# Altium schematic symbol library ATC89C52RC.SchLib: 5 symbols
Pins are listed as number, name and electrical type; pins without a type are passive.

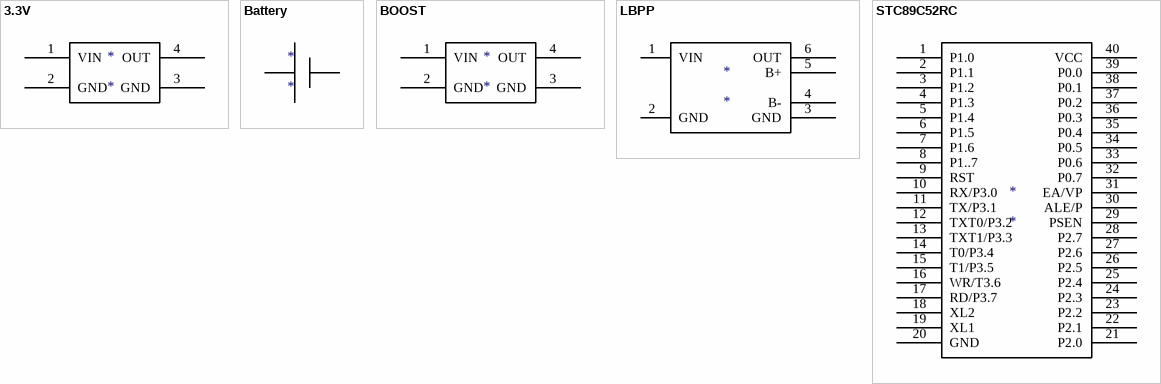
[diagram p0: symbols 3.3V to STC89C52RC]

## 3.3V
designator *
pins: 1 VIN, 2 GND, 3 GND, 4 OUT

## Battery
designator *
pins: 1 V+, 2 GND

## BOOST
designator *
pins: 1 VIN, 2 GND, 3 GND, 4 OUT

## LBPP
designator *
pins: 1 VIN, 2 GND, 3 GND, 4 B-, 5 B+, 6 OUT

## STC89C52RC
designator *
pins: 1 P1.0, 2 P1.1, 3 P1.2, 4 P1.3, 5 P1.4, 6 P1.5, 7 P1.6, 8 P1..7, 9 RST, 10 RX/P3.0, 11 TX/P3.1, 12 TXT0/P3.2, 13 TXT1/P3.3, 14 T0/P3.4, 15 T1/P3.5, 16 WR/T3.6, 17 RD/P3.7, 18 XL2, 19 XL1, 20 GND, 21 P2.0, 22 P2.1, 23 P2.2, 24 P2.3, 25 P2.4, 26 P2.5, 27 P2.6, 28 P2.7, 29 PSEN, 30 ALE/P, 31 EA/VP, 32 P0.7, 33 P0.6, 34 P0.5, 35 P0.4, 36 P0.3, 37 P0.2, 38 P0.1, 39 P0.0, 40 VCC